# Altium schematic symbol library PassiveComponents.SchLib: 4 symbols
Pins are listed as number, name and electrical type; pins without a type are passive.

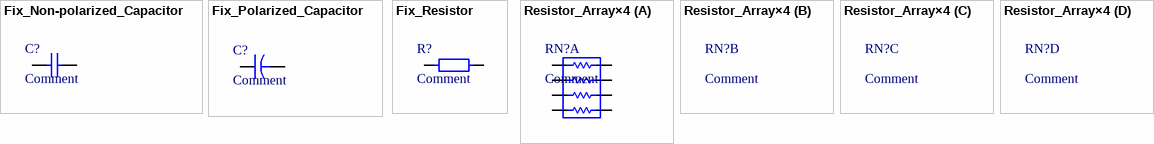
[diagram p0: symbols Fix_Non-polarized_Capacitor to Resistor_Array×4]

## Fix_Non-polarized_Capacitor
designator C?, comment Comment
Value: 1p; Initial Voltage: 0V; TEMP: 25
simulation model C_Capacitor_Default (Model Description)
pins: 1 "Capacitor_Pin_01", 2 "Capacitor_Pin_02"

## Fix_Polarized_Capacitor
designator C?, comment Comment
Value: 1p; Initial Voltage: 0V; TEMP: 25
simulation model C_Capacitor_Default (Model Description)
pins: 1 "Capacitor_Pin_01", 2 "Capacitor_Pin_02"
2 alternate drawings of the same symbol

## Fix_Resistor
designator R?, comment Comment
TEMP: 25; TC2: 0; TC: 1; Value: 1K; TC1: 0
simulation model R_Resistor_Default (Model Description)
pins: 1 "Resistor_Pin_01", 2 "Resistor_Pin_02"
2 alternate drawings of the same symbol

## Resistor_Array×4
designator RN?, comment Comment
part A pins: 1 "Resistor_01_Pin_01", 2 "Resistor_02_Pin_01", 3 "Resistor_03_Pin_01", 4 "Resistor_04_Pin_01", 5 "Resistor_04_Pin_02", 6 "Resistor_03_Pin_02", 7 "Resistor_02_Pin_02", 8 "Resistor_01_Pin_02"
2 alternate drawings of the same symbol